# EAGLE library part LTC3403 (library PowerProducts)
LT-Spice library generated with : ltspice.ulp from: D:/Program Files (x86)/LTC/LTspiceIV/lib/sym/PowerProducts/LTC3405*.asy at 07.10.2012 18:02:09
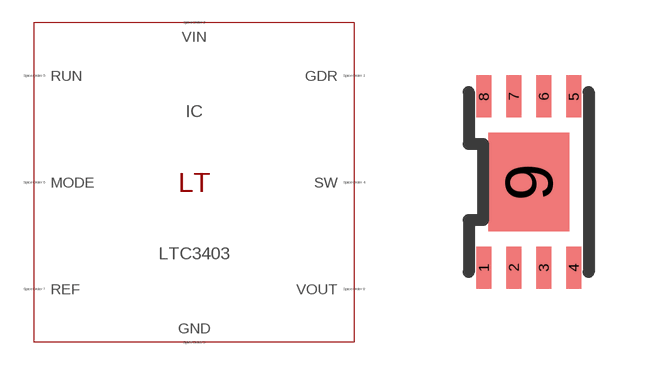
[diagram p161: symbol with the pads of DFN8(DD); footprint DFN8(DD)]

Designator prefix IC

## LTC3403 (SPICEMODEL: LTC3403.sub; SPICEPREFIX: X; VALUE2: LTC3403)  [DFN8(DD)]
1  GDR  pas
2  VIN  pas
3  GND  pas
4  SW  pas
5  RUN  pas
6  MODE  pas
7  REF  pas
8  VOUT  pas
9  GND  pas

## Footprint DFN8(DD) (pad centres in mm)
Package generated from: DFN8(DD).asc (!PADS-POWERPCB-V5.0-BASIC! DESIGN DATABASE ASCII FILE 1.0) with :import-pads-powerpcb-v5.ulp Version 1.0.1 at 04.10.2012 14:11:17
smd 0.375 x 1.05: 1 -1.125,-2.138; 2 -0.375,-2.138; 3 0.375,-2.138; 4 1.125,-2.138; 5 1.125,2.138; 6 0.375,2.138; 7 -0.375,2.138; 8 -1.125,2.138
smd 2.025 x 2.475: 9 0,0